# Altium footprint library STM32F4DD.PcbLib: 13 footprints
Each footprint in its own frame and in the unit in brackets; x right, y up, seen from the top. Pads: shape width x height; smd on the part's side, far side on the other; paste and mask are expansions set on the pad; w line width, h text height; cw(c..) or ccw(c..) is an arc to the next point about the centre after c.
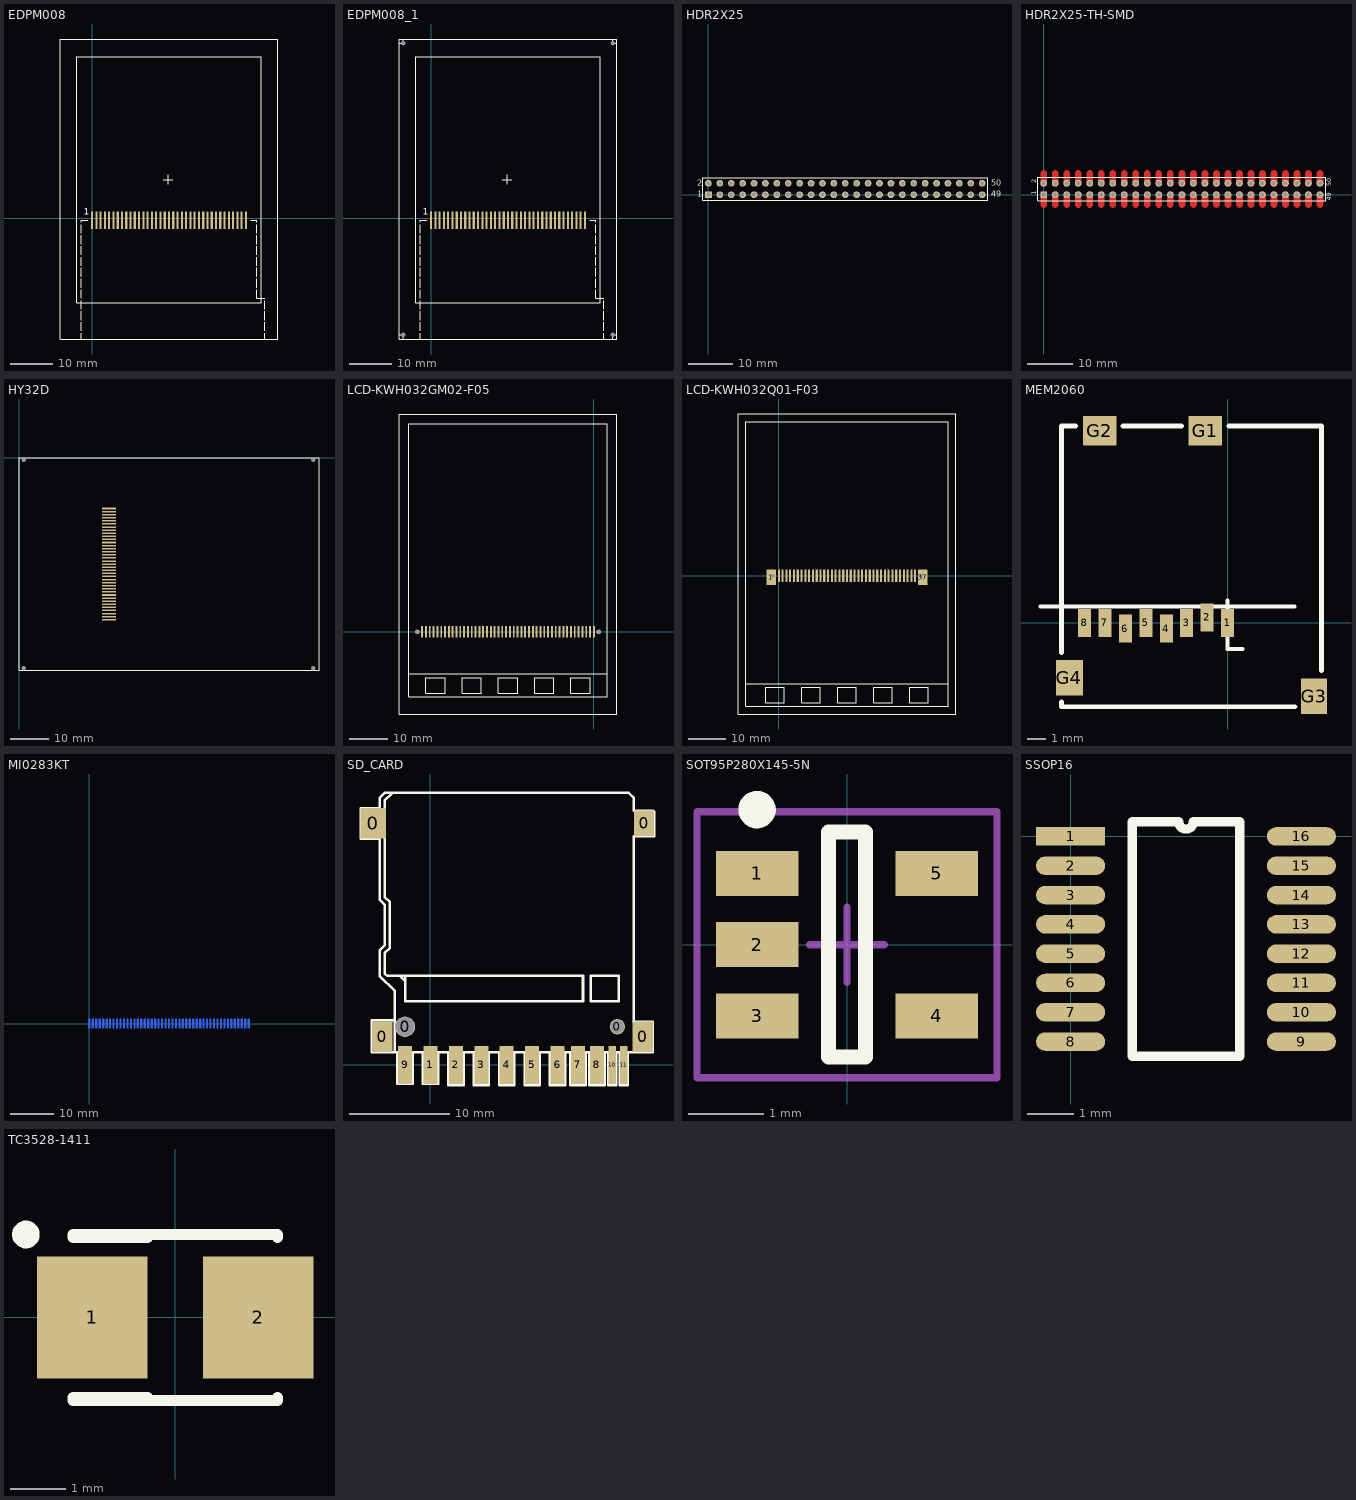
[diagram p0: the footprints below, top view; thin cyan lines are the x and y axes]

## EDPM008 [mm] "ELT240320TP -- 2.8\" Touch Screen TFT LCD 240x320 Dots"
pads (37):
  rect 0.5x4 smd: 1(0,-0.508) 2(1,-0.508) 3(2,-0.508) 4(3,-0.508) 5(4,-0.508) 6(5,-0.508) 7(6,-0.508) 8(7,-0.508) 9(8,-0.508) 10(9,-0.508) 11(10,-0.508) 12(11,-0.508) 13(12,-0.508) 14(13,-0.508) 15(14,-0.508) 16(15,-0.508) 17(16,-0.508) 18(17,-0.508) 19(18,-0.508) 20(19,-0.508) 21(20,-0.508) 22(21,-0.508) 23(22,-0.508) 24(23,-0.508) 25(24,-0.508) 26(25,-0.508) 27(26,-0.508) 28(27,-0.508) 29(28,-0.508) 30(29,-0.508) 31(30,-0.508) 32(31,-0.508) 33(32,-0.508) 34(33,-0.508) 35(34,-0.508) 36(35,-0.508) 37(36,-0.508)
Top Overlay:
  lines w0.254: -2.5,-26.924 -2.5,-28.3 ; -2.5,-26.416 -2.5,-24.384 ; -2.5,-23.876 -2.5,-21.844 ; -2.5,-21.336 -2.5,-19.304 ; -2.5,-18.796 -2.5,-16.764 ; -2.5,-16.256 -2.5,-14.224 ; -2.5,-13.716 -2.5,-11.684 ; -2.5,-11.176 -2.5,-9.144 ; -2.5,-8.636 -2.5,-6.604 ; -2.5,-6.096 -2.5,-4.064 ; -2.5,-3.556 -2.5,-1.524 ; -2.5,-1.016 -2.5,-0.5 -1.016,-0.5 ; 16.637,9 17.78,9 ; 17.78,7.857 17.78,9 ; 17.78,10.143 17.78,9 ; 18.923,9 17.78,9 ; 37.084,-0.5 38.5,-0.5 38.5,-1.016 ; 38.5,-18.8 40.4,-18.8 ; 38.5,-18.796 38.5,-16.764 ; 38.5,-16.256 38.5,-14.224 ; 38.5,-13.716 38.5,-11.684 ; 38.5,-11.176 38.5,-9.144 ; 38.5,-8.636 38.5,-6.604 ; 38.5,-6.096 38.5,-4.064 ; 38.5,-3.556 38.5,-1.524 ; 40.4,-28.3 40.4,-26.924 ; 40.4,-26.416 40.4,-24.384 ; 40.4,-23.876 40.4,-21.844 ; 40.4,-21.336 40.4,-19.304 ; -2.5,-28.3 43.5,-28.3 43.5,41.9 -7.5,41.9 -7.5,-28.3 -2.5,-28.3 ; -3.6,-19.8 -3.6,37.8 39.6,37.8 39.6,-19.8 -3.6,-19.8
  text "1" at -1.905,0.762 h1.52

## EDPM008_1 [mm] "ELT240320TP -- 2.8\" Touch Screen TFT LCD 240x320 Dots"
pads (41):
  rect 0.5x4 smd: 1(0,-0.508) 2(1,-0.508) 3(2,-0.508) 4(3,-0.508) 5(4,-0.508) 6(5,-0.508) 7(6,-0.508) 8(7,-0.508) 9(8,-0.508) 10(9,-0.508) 11(10,-0.508) 12(11,-0.508) 13(12,-0.508) 14(13,-0.508) 15(14,-0.508) 16(15,-0.508) 17(16,-0.508) 18(17,-0.508) 19(18,-0.508) 20(19,-0.508) 21(20,-0.508) 22(21,-0.508) 23(22,-0.508) 24(23,-0.508) 25(24,-0.508) 26(25,-0.508) 27(26,-0.508) 28(27,-0.508) 29(28,-0.508) 30(29,-0.508) 31(30,-0.508) 32(31,-0.508) 33(32,-0.508) 34(33,-0.508) 35(34,-0.508) 36(35,-0.508) 37(36,-0.508)
  round 0 hole 1: ""(-6.525,-27.325) ""(-6.525,40.925) ""(42.525,-27.325) ""(42.525,40.925)
Top Overlay:
  lines w0.254: -7.5,-27.325 -6.525,-27.325 -6.525,-28.3 ; -7.5,40.925 -6.525,40.925 -6.525,41.9 ; -2.5,-26.924 -2.5,-28.3 ; -2.5,-26.416 -2.5,-24.384 ; -2.5,-23.876 -2.5,-21.844 ; -2.5,-21.336 -2.5,-19.304 ; -2.5,-18.796 -2.5,-16.764 ; -2.5,-16.256 -2.5,-14.224 ; -2.5,-13.716 -2.5,-11.684 ; -2.5,-11.176 -2.5,-9.144 ; -2.5,-8.636 -2.5,-6.604 ; -2.5,-6.096 -2.5,-4.064 ; -2.5,-3.556 -2.5,-1.524 ; -2.5,-1.016 -2.5,-0.5 -1.016,-0.5 ; 16.637,9 17.78,9 ; 17.78,7.857 17.78,9 ; 17.78,10.143 17.78,9 ; 18.923,9 17.78,9 ; 37.084,-0.5 38.5,-0.5 38.5,-1.016 ; 38.5,-18.8 40.4,-18.8 ; 38.5,-18.796 38.5,-16.764 ; 38.5,-16.256 38.5,-14.224 ; 38.5,-13.716 38.5,-11.684 ; 38.5,-11.176 38.5,-9.144 ; 38.5,-8.636 38.5,-6.604 ; 38.5,-6.096 38.5,-4.064 ; 38.5,-3.556 38.5,-1.524 ; 40.4,-28.3 40.4,-26.924 ; 40.4,-26.416 40.4,-24.384 ; 40.4,-23.876 40.4,-21.844 ; 40.4,-21.336 40.4,-19.304 ; 42.525,-28.3 42.525,-27.325 43.5,-27.325 ; 42.525,41.9 42.525,40.925 43.5,40.925 ; -2.5,-28.3 43.5,-28.3 43.5,41.9 -7.5,41.9 -7.5,-28.3 -2.5,-28.3 ; -3.6,-19.8 -3.6,37.8 39.6,37.8 39.6,-19.8 -3.6,-19.8
  text "1" at -1.905,0.762 h1.52

## HDR2X25 [mm]
pads (50):
  rect 1.5x1.5 hole 0.9: 1(0,0)
  round 1.5 hole 0.9: 2(0,2.54) 3(2.54,0) 4(2.54,2.54) 5(5.08,0) 6(5.08,2.54) 7(7.62,0) 8(7.62,2.54) 9(10.16,0) 10(10.16,2.54) 11(12.7,0) 12(12.7,2.54) 13(15.24,0) 14(15.24,2.54) 15(17.78,0) 16(17.78,2.54) 17(20.32,0) 18(20.32,2.54) 19(22.86,0) 20(22.86,2.54) 21(25.4,0) 22(25.4,2.54) 23(27.94,0) 24(27.94,2.54) 25(30.48,0) 26(30.48,2.54) 27(33.02,0) 28(33.02,2.54) 29(35.56,0) 30(35.56,2.54) 31(38.1,0) 32(38.1,2.54) 33(40.64,0) 34(40.64,2.54) 35(43.18,0) 36(43.18,2.54) 37(45.72,0) 38(45.72,2.54) 39(48.26,0) 40(48.26,2.54) 41(50.8,0) 42(50.8,2.54) 43(53.34,0) 44(53.34,2.54) 45(55.88,0) 46(55.88,2.54) 47(58.42,0) 48(58.42,2.54) 49(60.96,0) 50(60.96,2.54)
Top Overlay:
  lines w0.2: -1.27,-1.27 62.23,-1.27 62.23,3.81 -1.27,3.81 -1.27,-1.27
  text "50" at 62.992,2.032 h1.27
  text "49" at 62.992,-0.508 h1.27
  text "1" at -2.54,-0.508 h1.27
  text "2" at -2.54,2.032 h1.27

## HDR2X25-TH-SMD [mil] "PCB SOCKET HEADER 50 PINS FEMALE MIX 2.54MM"
pads (50):
  rect 60x60 hole 40: 1(0,0)
  round 60 hole 40: 2(0,100) 3(100,0) 4(100,100) 5(200,0) 6(200,100) 7(300,0) 8(300,100) 9(400,0) 10(400,100) 11(500,0) 12(500,100) 13(600,0) 14(600,100) 15(700,0) 16(700,100) 17(800,0) 18(800,100) 19(900,0) 20(900,100) 21(1000,0) 22(1000,100) 23(1100,0) 24(1100,100) 25(1200,0) 26(1200,100) 27(1300,0) 28(1300,100) 29(1400,0) 30(1400,100) 31(1500,0) 32(1500,100) 33(1600,0) 34(1600,100) 35(1700,0) 36(1700,100) 37(1800,0) 38(1800,100) 39(1900,0) 40(1900,100) 41(2000,0) 42(2000,100) 43(2100,0) 44(2100,100) 45(2200,0) 46(2200,100) 47(2300,0) 48(2300,100) 49(2400,0) 50(2400,100)
Top Layer:
  lines w60: 0,-85 0,0 ; 0,100 0,185 ; 100,-85 100,0 ; 100,100 100,185 ; 200,-85 200,0 ; 200,100 200,185 ; 300,-85 300,0 ; 300,100 300,185 ; 400,-85 400,0 ; 400,100 400,185 ; 500,-85 500,0 ; 500,100 500,185 ; 600,-85 600,0 ; 600,100 600,185 ; 700,-85 700,0 ; 700,100 700,185 ; 800,-85 800,0 ; 800,100 800,185 ; 900,-85 900,0 ; 900,100 900,185 ; 1000,-85 1000,0 ; 1000,100 1000,185 ; 1100,-85 1100,0 ; 1100,100 1100,185 ; 1200,-85 1200,0 ; 1200,100 1200,185 ; 1300,-85 1300,0 ; 1300,100 1300,185 ; 1400,-85 1400,0 ; 1400,100 1400,185 ; 1500,-85 1500,0 ; 1500,100 1500,185 ; 1600,-85 1600,0 ; 1600,100 1600,185 ; 1700,-85 1700,0 ; 1700,100 1700,185 ; 1800,-85 1800,0 ; 1800,100 1800,185 ; 1900,-85 1900,0 ; 1900,100 1900,185 ; 2000,-85 2000,0 ; 2000,100 2000,185 ; 2100,-85 2100,0 ; 2100,100 2100,185 ; 2200,-85 2200,0 ; 2200,100 2200,185 ; 2300,-85 2300,0 ; 2300,100 2300,185 ; 2400,-85 2400,0 ; 2400,100 2400,185
Top Overlay:
  lines w7.87: -50,-50 2450,-50 2450,150 -50,150 -50,-50
  text "50" at 2500,75 h40
  text "49" at 2500,-50 h40
  text "1" at -67,0 h40
  text "2" at -67,100 h40
Top Solder:
  lines w60: 0,-85 0,0 ; 0,100 0,185 ; 100,-85 100,0 ; 100,100 100,185 ; 200,-85 200,0 ; 200,100 200,185 ; 300,-85 300,0 ; 300,100 300,185 ; 400,-85 400,0 ; 400,100 400,185 ; 500,-85 500,0 ; 500,100 500,185 ; 600,-85 600,0 ; 600,100 600,185 ; 700,-85 700,0 ; 700,100 700,185 ; 800,-85 800,0 ; 800,100 800,185 ; 900,-85 900,0 ; 900,100 900,185 ; 1000,-85 1000,0 ; 1000,100 1000,185 ; 1100,-85 1100,0 ; 1100,100 1100,185 ; 1200,-85 1200,0 ; 1200,100 1200,185 ; 1300,-85 1300,0 ; 1300,100 1300,185 ; 1400,-85 1400,0 ; 1400,100 1400,185 ; 1500,-85 1500,0 ; 1500,100 1500,185 ; 1600,-85 1600,0 ; 1600,100 1600,185 ; 1700,-85 1700,0 ; 1700,100 1700,185 ; 1800,-85 1800,0 ; 1800,100 1800,185 ; 1900,-85 1900,0 ; 1900,100 1900,185 ; 2000,-85 2000,0 ; 2000,100 2000,185 ; 2100,-85 2100,0 ; 2100,100 2100,185 ; 2200,-85 2200,0 ; 2200,100 2200,185 ; 2300,-85 2300,0 ; 2300,100 2300,185 ; 2400,-85 2400,0 ; 2400,100 2400,185

## HY32D [mm]
pads (41):
  rect 3.6x0.4 smd: 1(23.29,-13.15) 2(23.29,-13.95) 3(23.29,-14.75) 4(23.29,-15.55) 5(23.29,-16.35) 6(23.29,-17.15) 7(23.29,-17.95) 8(23.29,-18.75) 9(23.29,-19.55) 10(23.29,-20.35) 11(23.29,-21.15) 12(23.29,-21.95) 13(23.29,-22.75) 14(23.29,-23.55) 15(23.29,-24.35) 16(23.29,-25.15) 17(23.29,-25.95) 18(23.29,-26.75) 19(23.29,-27.55) 20(23.29,-28.35) 21(23.29,-29.15) 22(23.29,-29.95) 23(23.29,-30.75) 24(23.29,-31.55) 25(23.29,-32.35) 26(23.29,-33.15) 27(23.29,-33.95) 28(23.29,-34.75) 29(23.29,-35.55) 30(23.29,-36.35) 31(23.29,-37.15) 32(23.29,-37.95) 33(23.29,-38.75) 34(23.29,-39.55) 35(23.29,-40.35) 36(23.29,-41.15) 37(23.29,-41.95)
  rect 0x0 hole 1.1: ""(1.2,-54.54) ""(1.2,-0.5) ""(76.2,-54.54) ""(76.2,-0.5)
Top Overlay:
  lines w0.1: 76.2,-54.54 76.2,-55.04 77.7,-55.04 ; 76.2,0 77.7,0
  lines w0.254: 0,-55.04 77.7,-55.04 77.7,0 0,0 0,-55.04

## LCD-KWH032GM02-F05 [mm]
pads (48):
  rect 0.5x3 smd: 1(0,0) 2(-1,0) 3(-2,0) 4(-3,0) 5(-4,0) 6(-5,0) 7(-6,0) 8(-7,0) 9(-8,0) 10(-9,0) 11(-10,0) 12(-11,0) 13(-12,0) 14(-13,0) 15(-14,0) 16(-15,0) 17(-16,0) 18(-17,0) 19(-18,0) 20(-19,0) 21(-20,0) 22(-21,0) 23(-22,0) 24(-23,0) 25(-24,0) 26(-25,0) 27(-26,0) 28(-27,0) 29(-28,0) 30(-29,0) 31(-30,0) 32(-31,0) 33(-32,0) 34(-33,0) 35(-34,0) 36(-35,0) 37(-36,0) 38(-37,0) 39(-38,0) 40(-39,0) 41(-40,0) 42(-41,0) 43(-42,0) 44(-43,0) 45(-44,0) 46(-45,0)
  round 1.2 hole 1: ""(-46.25,0) ""(1.25,0)
Top Overlay:
  lines w0.254: -48.47,-11 3.47,-11 ; -50.97,-21.5 -50.97,57.1 5.97,57.1 5.97,-21.5 -50.97,-21.5 ; -48.47,-17 -48.47,54.6 3.47,54.6 3.47,-17 -48.47,-17 ; -44,-16.03 -39,-16.03 -39,-12.03 -44,-12.03 -44,-16.03 ; -34.5,-16.03 -29.5,-16.03 -29.5,-12.03 -34.5,-12.03 -34.5,-16.03 ; -25,-16.03 -20,-16.03 -20,-12.03 -25,-12.03 -25,-16.03 ; -15.5,-16.03 -10.5,-16.03 -10.5,-12.03 -15.5,-12.03 -15.5,-16.03 ; -6,-16.03 -1,-16.03 -1,-12.03 -6,-12.03 -6,-16.03
3D body: height 4.42, standoff 0.02, extent -51.428,-21.851 6.072,57.149

## LCD-KWH032Q01-F03 [mil]
pads (41):
  rect 98.42x160 smd: 1(-78.74,-17) 37(1496.06,-17)
  round 47 hole 39.37: 1(-59.06,0) 37(1476.38,0)
  rect 22x125 smd: 1(0,0) 2(39.37,0) 3(78.74,0) 4(118.11,0) 5(157.48,0) 6(196.85,0) 7(236.22,0) 8(275.59,0) 9(314.96,0) 10(354.33,0) 11(393.7,0) 12(433.07,0) 13(472.44,0) 14(511.81,0) 15(551.18,0) 16(590.55,0) 17(629.92,0) 18(669.29,0) 19(708.66,0) 20(748.03,0) 21(787.4,0) 22(826.77,0) 23(866.14,0) 24(905.51,0) 25(944.88,0) 26(984.25,0) 27(1023.62,0) 28(1062.99,0) 29(1102.36,0) 30(1141.73,0) 31(1181.1,0) 32(1220.47,0) 33(1259.84,0) 34(1299.21,0) 35(1338.58,0) 36(1377.95,0) 37(1417.32,0)
Top Overlay:
  lines w10: -345.28,-1122.05 1762.6,-1122.05 ; -424.02,-1437.01 1841.34,-1437.01 1841.34,1681.1 -424.02,1681.1 -424.02,-1437.01 ; -345.28,-1358.27 -345.28,1602.36 1762.6,1602.36 1762.6,-1358.27 -345.28,-1358.27 ; -137.8,-1318.9 -137.8,-1161.42 59.05,-1161.42 59.05,-1318.9 -137.8,-1318.9 ; 236.22,-1318.9 236.22,-1161.42 433.07,-1161.42 433.07,-1318.9 236.22,-1318.9 ; 610.24,-1318.9 610.24,-1161.42 807.09,-1161.42 807.09,-1318.9 610.24,-1318.9 ; 984.25,-1318.9 984.25,-1161.42 1181.1,-1161.42 1181.1,-1318.9 984.25,-1318.9 ; 1358.27,-1318.9 1358.27,-1161.42 1555.12,-1161.42 1555.12,-1318.9 1358.27,-1318.9
3D body: height 173.83, standoff 0.6, extent -412.23,-1437.02 1851.55,1673.21

## MEM2060 [mm] "Micro SD Memory Card Connector, Push-Push, SMT, Card Entry Normal, 1.9mm Profile"
height 1.905
pads (12):
  rect 0.7x1.5 smd: 1(0,0) 2(-1.1,0.3) 3(-2.2,0) 4(-3.3,-0.3) 5(-4.4,0) 6(-5.5,-0.3) 7(-6.6,0) 8(-7.7,0)
  rect 1.8x1.6 smd: G1(-1.19,10.351) G2(-6.89,10.351)
  rect 1.4x1.9 smd: G3(4.66,-3.95)
  rect 1.45x1.9 smd: G4(-8.515,-2.95)
Top Overlay:
  lines w0.203: -10.084,0.883 3.607,0.883 ; 0,1.219 0,-1.397 0.813,-1.397
  lines w0.254: -8.94,-4.259 -8.94,-4.513 3.633,-4.513 ; -8.94,-1.592 -8.94,10.6 -8.178,10.6 ; -5.638,10.6 -2.463,10.6 ; 0.077,10.6 5.06,10.6 5.06,-2.578
3D body: height 1.85, standoff -0.05, extent -9.05,-4.361 5.05,10.863

## MI0283KT [mm] "TFT-G240*320"
height 3.8
pads (47):
  rrect50% 0.4x2.2 smd far side: 1(0,0) 2(0.8,0) 3(1.6,0) 4(2.4,0) 5(3.2,0) 6(4,0) 7(4.8,0) 8(5.6,0) 9(6.4,0) 10(7.2,0) 11(8,0) 12(8.8,0) 13(9.6,0) 14(10.4,0) 15(11.2,0) 16(12,0) 17(12.8,0) 18(13.6,0) 19(14.4,0) 20(15.2,0) 21(16,0) 22(16.8,0) 23(17.6,0) 24(18.4,0) 25(19.2,0) 26(20,0) 27(20.8,0) 28(21.6,0) 29(22.4,0) 30(23.2,0) 31(24,0) 32(24.8,0) 33(25.6,0) 34(26.4,0) 35(27.2,0) 36(28,0) 37(28.8,0) 38(29.6,0) 39(30.4,0) 40(31.2,0) 41(32,0) 42(32.8,0) 43(33.6,0) 44(34.4,0) 45(35.2,0) 46(36,0) 47(36.8,0)
Bottom Overlay:
  lines w0.254: -6.7,-15.1 43.5,-15.1 43.5,54.2 -6.7,54.2 -6.7,-15.1

## SD_CARD [mil]
height 149.61
pads (17):
  rect 100x120 smd: 0(-225,950)
  rect 80x120 smd: 0(-190,110) 0(835,110)
  round 80 hole 75: 0(-100,150)
  round 60 hole 52: 0(735,150)
  rect 80x100 smd: 0(840,950)
  rect 55x150 smd: 1(0,0) 2(100,0) 3(200,0) 4(300,0) 5(400,0) 6(500,0) 7(580,0) 8(655,0) 9(-100,0)
  rect 30x150 smd: 10(715,0) 11(760,0)
Top Overlay:
  lines w10: -200,890 -275,890 -275,1010 -200,1010 ; -150,1070 -180,1040 -180,670 -180,660 -160,640 -160,460 -180,440 -180,360 -170,350 -100,350 ; -140,175 -230,175 -230,50 -140,50 ; -130,50 -130,-75 -70,-75 -70,50 ; -120,350 -100,330 ; -30,50 -30,-75 30,-75 30,50 ; 70,45 70,-80 130,-80 130,45 ; 170,45 170,-80 230,-80 230,45 ; 270,45 270,-80 330,-80 330,45 ; 370,45 370,-80 430,-80 430,45 ; 470,45 470,-80 530,-80 530,45 ; 550,45 550,-80 610,-80 610,45 ; 625,45 625,-80 685,-80 685,45 ; 640,350 740,350 740,250 630,250 630,350 650,350 ; 700,50 700,-80 730,-80 730,50 ; 750,50 -140,50 ; 775,50 775,-80 745,-80 745,50 800,50 875,50 875,170 800,170 800,900 880,900 880,995 875,1000 800,1000 800,1050 780,1070 770,1070 -180,1070 -200,1050 -200,650 -180,630 -180,470 -200,450 -200,440 -200,370 -200,350 -140,290 -140,60 -140,50 ; -100,350 -100,340 -100,250 600,250 600,350 -100,350

## SOT95P280X145-5N [mm] "SOT23, 5-Leads, Body 3.0x3.0mm (max), Pitch 0.95mm, IPC Medium Density"
height 1.45
pads (5):
  rect 1.1x0.6 smd: 1(-1.2,0.95) 2(-1.2,0) 3(-1.2,-0.95) 4(1.2,-0.95) 5(1.2,0.95)
Top Overlay:
  circle w0.25: c-1.2,1.8 r0.125
  lines w0.2: -0.25,-1.5 -0.25,1.5 0.25,1.5 0.25,-1.5 -0.25,-1.5
Mechanical 15:
  lines w0.1: -0.5,0 0.5,0 ; 0,-0.5 0,0.5 ; -2,-1.775 2,-1.775 2,1.775 -2,1.775 -2,-1.775
3D body: height 1.3, standoff 0, extent -1.5,-1.5 1.5,1.5

## SSOP16 [mm]
pads (16):
  rect 1.5x0.4 smd: 1(0,0)
  oval 1.5x0.4 smd: 2(0,-0.635) 3(0,-1.27) 4(0,-1.905) 5(0,-2.54) 6(0,-3.175) 7(0,-3.81) 8(0,-4.445) 9(5,-4.445) 10(5,-3.81) 11(5,-3.175) 12(5,-2.54) 13(5,-1.905) 14(5,-1.27) 15(5,-0.635) 16(5,0)
Top Overlay:
  lines w0.2: 1.335,-4.763 3.665,-4.763 3.665,0.318 2.659,0.318 cw(c2.5,0.318) 2.341,0.318 1.335,0.318 1.335,-4.763
3D body: height 1.07, standoff -0.03, extent -0.508,-4.75 5.486,0.229

## TC3528-1411 [mm] "Capacitor, SM Tantalum; Body 3.5 x 2.8 mm (LxW typ)"
height 2.5
pads (2):
  rect 2x2.2 smd: 1(-1.5,0) 2(1.5,0)
Top Overlay:
  circle w0.25: c-2.7,1.5 r0.125
  lines w0.2: -1.85,-1.5 1.85,-1.5 1.85,-1.45 ; -1.85,-1.45 -0.5,-1.45 ; -1.85,1.45 -0.5,1.45 ; -1.85,1.5 1.85,1.5 1.85,1.45
3D body: height 2.11, standoff -0.04, extent -2.499,-1.498 2.499,1.499